# Altium schematic symbol library INA228AIDGST.SchLib: 1 symbol
Pins are listed as number, name and electrical type; pins without a type are passive.

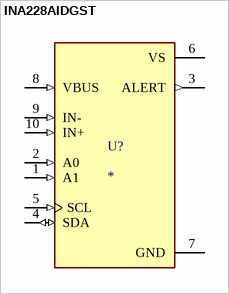
[diagram p0: symbol INA228AIDGST]

## INA228AIDGST
designator U?
85-V, 20-bit, ultra-precise, I2C output current/voltage/power/energy/charge monitor with alert; MF: Texas Instruments; MP: INA228AIDGST; SnapEDA_Link: https://www.snapeda.com/parts/INA228AIDGST/Texas+Instruments/view-part/?ref=snap; Package: VSSOP-10 Texas Instruments; Value: *; Check_prices: https://www.snapeda.com/parts/INA228AIDGST/Texas+Instruments/view-part/?ref=eda
footprint SOP50P490X110-10N
pins: 1 A1 (in), 2 A0 (in), 3 ALERT (out), 4 SDA (io), 5 SCL (in), 6 VS, 7 GND (power), 8 VBUS (in), 9 IN- (in), 10 IN+ (in)